# Altium footprint library BiSheFinal.PcbLib: 15 footprints
Each footprint in its own frame and in the unit in brackets; x right, y up, seen from the top. Pads: shape width x height; smd on the part's side, far side on the other; paste and mask are expansions set on the pad; w line width, h text height; cw(c..) or ccw(c..) is an arc to the next point about the centre after c.
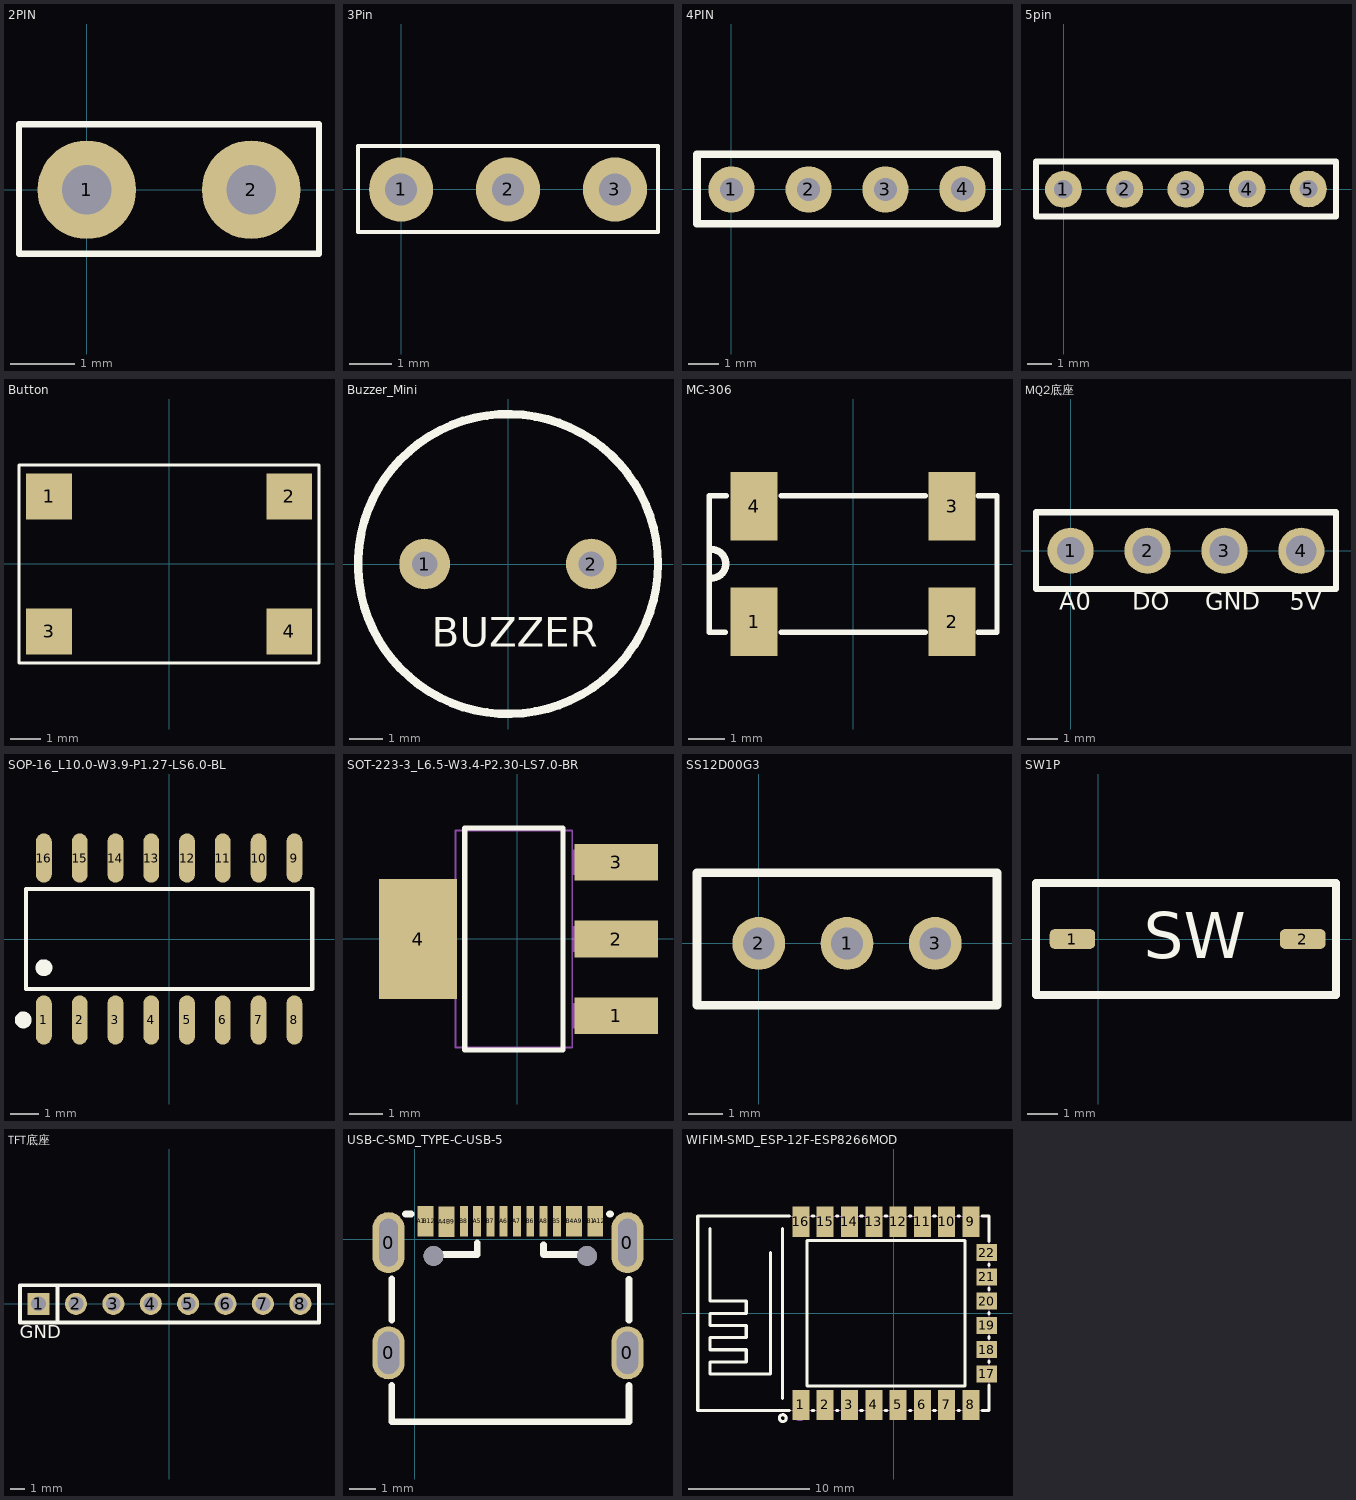
[diagram p0: the footprints below, top view; thin cyan lines are the x and y axes]

## 2PIN [mil] "排针"
pads (2):
  round 60 hole 30: 1(0,0) 2(100,0)
Top Overlay:
  lines w3.94: -41.29,-39.02 141.29,-39.02 141.29,40 -41.29,40 -41.29,-39.02

## 3Pin [mil] "排针"
pads (3):
  round 60 hole 30: 1(0,0) 2(100,0) 3(200,0)
Top Overlay:
  lines w3.94: -40.27,-39.88 240.25,-39.88 240.25,40.77 -40.27,40.77 -40.27,-39.88

## 4PIN [mil]
pads (4):
  round 60 hole 30: 1(0,0) 2(100.21,0) 3(200,0) 4(300.2,0.6)
Top Overlay:
  lines w10: -44.8,-44.4 -44.8,45.6 344.94,45.6 344.94,-44.4 -44.8,-44.4

## 5pin [mil] "5PIN排针"
pads (5):
  round 60 hole 30: 1(-0.2,-0.6) 2(100.01,-0.6) 3(199.8,-0.6) 4(300,0) 5(400,0)
Top Overlay:
  lines w10: -45,-45 445,-45 445,45 -45,45 -45,-45

## Button [mm] "6*6*7mm"
pads (4):
  rect 1.524x1.524 smd: 1(-4,2.25) 2(4,2.25) 3(-4,-2.25) 4(4,-2.25)
Top Overlay:
  lines w0.1: -5,-3.3 -5,3.3 4.973,3.3 ; -4.987,-3.301 4.991,-3.301 ; 4.993,-3.304 4.993,3.296

## Buzzer_Mini [mil] "小型蜂鸣器"
pads (2):
  round 60 hole 30: 1(-98.43,0) 2(98.43,0)
Top Overlay:
  circle w10: c0,0 r177.17
  text "BUZZER" at -90,-109.33 h60

## MC-306 [mm]
height 1.6
pads (4):
  rect 1.3x1.9 smd: 1(-2.75,-1.6) 2(2.75,-1.6) 3(2.75,1.6) 4(-2.75,1.6)
Top Overlay:
  lines w0.152: -3.556,-1.9 -4,-1.9 -4,1.9 -3.531,1.9 ; -2,-1.9 2,-1.9 ; -2,1.9 2,1.9 ; 3.48,-1.9 4,-1.9 4,1.9 3.48,1.9
  lines w0.2: -3.937,-0.394 ccw(c-3.937,0.006) -3.937,0.406

## MQ2底座 [mil] "底座"
pads (4):
  round 60 hole 36 mask+2: 1(0,0)
  round 60 hole 39.37 mask+2: 2(100,0) 3(200,0) 4(300,0)
Top Overlay:
  lines w7.87: -45,-50 345,-50 345,50 -45,50 -45,-50
  text "A0" at -15,-84.56 h39.37
  text "5V" at 285,-84.56 h39.37
  text "GND" at 175,-84.56 h39.37
  text "DO" at 80,-84.56 h39.37

## SOP-16_L10.0-W3.9-P1.27-LS6.0-BL [mm]
pads (16):
  oval 0.56x1.745 smd paste+0 mask+0.051: 1(-4.445,-2.872) 2(-3.175,-2.872) 3(-1.905,-2.872) 4(-0.635,-2.872) 5(0.635,-2.872) 6(1.905,-2.872) 7(3.175,-2.872) 8(4.445,-2.872) 9(4.445,2.872) 10(3.175,2.872) 11(1.905,2.872) 12(0.635,2.872) 13(-0.635,2.872) 14(-1.905,2.872) 15(-3.175,2.872) 16(-4.445,2.872)
Top Overlay:
  circle w0.3: c-5.177,-2.872 r0.15
  circle w0.3: c-4.445,-1.019 r0.15
  lines w0.152: -5.076,-1.771 5.076,-1.771 5.076,1.771 -5.076,1.771 -5.076,-1.771

## SOT-223-3_L6.5-W3.4-P2.30-LS7.0-BR [mm]
pads (4):
  rect 2.5x1.1 smd paste+0 mask+0.051: 1(2.97,-2.3) 2(2.97,0) 3(2.97,2.3)
  rect 2.34x3.6 smd paste+0 mask+0.051: 4(-2.97,0)
Top Overlay:
  lines w0.152: -1.571,-3.326 -1.571,3.326 1.371,3.326 1.371,-3.326 -1.571,-3.326
Mechanical 15:
  region: 1.64,1.925 1.64,2.675 2.66,2.675 2.66,1.925
  region: 2.65,1.925 2.65,2.675 3.4,2.675 3.4,1.925
  region: 1.64,-0.375 1.64,0.375 2.66,0.375 2.66,-0.375
  region: 2.65,-0.375 2.65,0.375 3.4,0.375 3.4,-0.375
  region: 1.64,-2.675 1.64,-1.925 2.66,-1.925 2.66,-2.675
  region: 2.65,-2.675 2.65,-1.925 3.4,-1.925 3.4,-2.675
  region: -2.86,-1.5 -2.86,1.5 -1.84,1.5 -1.84,-1.5
  region: -3.6,-1.5 -3.6,1.5 -2.85,1.5 -2.85,-1.5
  lines w0.051: -1.85,-3.25 -1.85,3.25 1.65,3.25 1.65,-3.25 -1.85,-3.25

## SS12D00G3 [mil] "拨动开关"
pads (3):
  round 60 hole 36 mask+2: 1(100,0) 2(0,0) 3(200,0)
Top Overlay:
  lines w10: -70,-70 270,-70 270,80 -70,80 -70,4.2 -70,-70

## SW1P [mm] "轻触开关"
pads (2):
  rrect50% 1.5x0.65 smd: 1(-0.854,0) 2(6.75,0)
Top Overlay:
  lines w0.254: 7.149,-1.85 7.15,-1.849 ; -2.057,-1.85 -2.057,-0.158 -2.057,1.85 7.849,1.85 7.849,-0.191 7.849,-1.85 -2.057,-1.85
  text "SW" at 1.499,-0.635 h1.52

## TFT底座 [mm] "底座"
pads (8):
  rect 1.5x1.5 hole 1 mask+0.051: 1(-8.89,0)
  round 1.5 hole 1 mask+0.051: 2(-6.35,0) 3(-3.81,0) 4(-1.27,0) 5(1.27,0) 6(3.81,0) 7(6.35,0) 8(8.89,0)
Top Overlay:
  lines w0.254: -10.033,-1.27 -10.16,-1.27 ; -7.596,-1.27 -7.596,1.27 ; -10.16,-1.27 10.16,-1.27 10.16,1.27 -10.16,1.27 -10.16,-1.27
  text "GND" at -10.16,-2.65 h1.52
Mechanical 15:
  region: -10.16,-1.31 -10.135,-1.31 -10.1,-1.275 -10.1,-1.225 -10.135,-1.19 -10.16,-1.19 -10.185,-1.19 -10.22,-1.225 -10.22,-1.275 -10.185,-1.31
  region: -9.21,0.32 -8.57,0.32 -8.57,-0.32 -9.21,-0.32
  region: -6.67,0.32 -6.03,0.32 -6.03,-0.32 -6.67,-0.32
  region: -4.13,0.32 -3.49,0.32 -3.49,-0.32 -4.13,-0.32
  region: -1.59,0.32 -0.95,0.32 -0.95,-0.32 -1.59,-0.32
  region: 0.95,0.32 1.59,0.32 1.59,-0.32 0.95,-0.32
  region: 3.49,0.32 4.13,0.32 4.13,-0.32 3.49,-0.32
  region: 6.03,0.32 6.67,0.32 6.67,-0.32 6.03,-0.32
  region: 8.57,0.32 9.21,0.32 9.21,-0.32 8.57,-0.32
  lines w0.051: -10.16,-1.25 10.16,-1.25 ; -10.16,1.25 10.16,1.25

## USB-C-SMD_TYPE-C-USB-5 [mm] "16P"
pads (22):
  oval 1.2x2 hole 0.8 slot 1.6 at 90 deg: 0(-0.986,-4.272) 0(8.014,-4.272)
  oval 1.2x2.3 hole 0.7 slot 1.8 at 90 deg: 0(-0.986,-0.122) 0(8.014,-0.122)
  rect 0.3x1.15 smd: A1(0.251,0.677) A4(1.052,0.674) A5(2.352,0.678) A6(3.352,0.678) A7(3.851,0.677) A9(6.152,0.678) A12(6.951,0.678) B1(6.652,0.678) B4(5.851,0.678) B5(5.352,0.678) B6(4.352,0.678) B7(2.851,0.677) B9(1.352,0.674) B12(0.551,0.677)
  rect 0.3x1.148 smd: A8(4.851,0.678) B8(1.851,0.678)
  round 0.75 hole 0.75 unplated: ""(0.711,-0.622) ""(6.491,-0.622)
Top Overlay:
  lines w0.254: -0.869,-5.495 -0.869,-6.872 8.071,-6.872 8.071,-5.501 ; -0.869,-3.049 -0.869,-1.495 ; -0.343,0.953 -0.13,0.953 ; 0.601,-0.572 2.351,-0.572 2.351,-0.128 ; 4.849,-0.198 4.849,-0.569 6.599,-0.569 ; 7.333,0.953 7.37,0.953 ; 8.071,-3.043 8.071,-1.501
3D body "USB Type-C_A.STEP": height 3.25, standoff -0.85, extent -0.863,-6.856 8.077,1.044

## WIFIM-SMD_ESP-12F-ESP8266MOD [mm]
pads (22):
  rect 1.4x2.5 smd: 1(-7.651,-7.551) 2(-5.651,-7.551) 3(-3.651,-7.551) 4(-1.651,-7.551) 5(0.349,-7.551) 6(2.349,-7.551) 7(4.349,-7.551) 8(6.349,-7.551) 9(6.349,7.549) 10(4.349,7.55) 11(2.349,7.551) 12(0.349,7.551) 13(-1.651,7.55) 14(-3.651,7.551) 15(-5.651,7.55) 16(-7.651,7.551)
  rect 1.7x1.4 smd: 17(7.651,-5) 18(7.649,-3.002) 19(7.65,-1.003) 20(7.65,0.997) 21(7.65,2.997) 22(7.65,4.997)
Top Overlay:
  circle w0.254: c-9.144,-8.636 r0.284
  lines w0.254: -15.151,6.998 -15.151,0.998 -12.151,0.998 -12.151,-0.002 -15.151,-0.002 -15.151,-1.002 -12.151,-1.002 -12.151,-2.002 -15.151,-2.002 -15.151,-3.002 -12.151,-3.002 -12.151,-4.002 -15.151,-4.002 -15.151,-5.002 -10.151,-5.002 -10.151,4.998 ; -9.151,-7.002 -9.151,6.998 ; -8.582,-8.001 -16.151,-8.001 -16.151,7.998 -8.582,7.998 ; -6.719,-8.001 -6.582,-8.001 ; -6.719,7.998 -6.582,7.998 ; -4.719,-8.001 -4.582,-8.001 ; -4.719,7.998 -4.582,7.998 ; -2.719,-8.001 -2.582,-8.001 ; -2.719,7.998 -2.582,7.998 ; -0.719,-8.001 -0.582,-8.001 ; -0.719,7.998 -0.582,7.998 ; 1.281,-8.001 1.418,-8.001 ; 1.281,7.998 1.418,7.998 ; 3.281,-8.001 3.418,-8.001 ; 3.281,7.998 3.418,7.998 ; 5.281,-8.001 5.418,-8.001 ; 5.281,7.998 5.418,7.998 ; 7.281,-8.001 7.847,-8.001 7.847,-5.931 ; 7.281,7.998 7.847,7.998 7.847,5.928 ; 7.847,-4.069 7.847,-3.933 ; 7.847,-2.071 7.847,-1.934 ; 7.847,-0.072 7.847,0.066 ; 7.847,1.929 7.847,2.066 ; 7.847,3.928 7.847,4.066 ; -7.151,-6.002 -7.151,5.998 5.849,5.998 5.849,-6.002 -7.151,-6.002
Mechanical 6:
  circle w0.5: c-7.747,-8.382 r0.25
Mechanical 15:
  region: 7.849,5.497 7.849,4.497 6.949,4.497 6.949,5.497
  region: 7.849,3.497 7.849,2.497 6.949,2.497 6.949,3.497
  region: 7.849,1.498 7.849,0.498 6.949,0.498 6.949,1.498
  region: 7.849,-0.503 7.849,-1.503 6.949,-1.503 6.949,-0.503
  region: 7.849,-2.502 7.849,-3.502 6.949,-3.502 6.949,-2.502
  region: 7.849,-4.5 7.849,-5.5 6.949,-5.5 6.949,-4.5
  region: -8.151,6.35 -8.151,8 -7.151,8 -7.151,6.35
  region: -6.151,6.35 -6.151,8 -5.151,8 -5.151,6.35
  region: -4.151,6.35 -4.151,8 -3.151,8 -3.151,6.35
  region: -2.151,6.35 -2.151,8 -1.151,8 -1.151,6.35
  region: -0.151,6.35 -0.151,8 0.849,8 0.849,6.35
  region: 1.849,6.35 1.849,8 2.849,8 2.849,6.35
  region: 3.849,6.35 3.849,8 4.849,8 4.849,6.35
  region: 5.849,6.35 5.849,8 6.849,8 6.849,6.35
  region: 6.849,-6.35 6.849,-8 5.849,-8 5.849,-6.35
  region: 4.849,-6.35 4.849,-8 3.849,-8 3.849,-6.35
  region: 2.849,-6.35 2.849,-8 1.849,-8 1.849,-6.35
  region: 0.849,-6.35 0.849,-8 -0.151,-8 -0.151,-6.35
  region: -1.151,-6.35 -1.151,-8 -2.151,-8 -2.151,-6.35
  region: -3.151,-6.35 -3.151,-8 -4.151,-8 -4.151,-6.35
  region: -5.151,-6.35 -5.151,-8 -6.151,-8 -6.151,-6.35
  region: -7.151,-6.35 -7.151,-8 -8.151,-8 -8.151,-6.35
  region: -16.091,-8.003 -16.091,-7.978 -16.126,-7.943 -16.176,-7.943 -16.211,-7.978 -16.211,-8.003 -16.211,-8.028 -16.176,-8.063 -16.126,-8.063 -16.091,-8.028 -16.091,-8.003
  lines w0.051: -16.151,-8.003 -16.151,7.997 7.849,7.997 7.849,-8.003 -16.151,-8.003